# Altium schematic symbol library R-CRCW0603470RJNEA.Schlib: 1 symbol
Pins are listed as number, name and electrical type; pins without a type are passive.

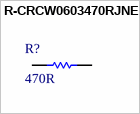
[diagram p0: symbol R-CRCW0603470RJNEA]

## R-CRCW0603470RJNEA
designator R?, comment 470R
Thick Film Resistors - SMD 1/10watt 470ohms 5%
pins: 1, 2